# EAGLE library part MICRO (library USB - Verbinder)
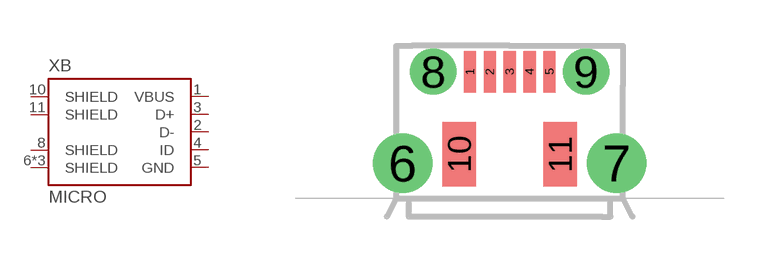
[diagram p1: symbol with the pads of MICRO_NEU; footprint MICRO_NEU]

Designator prefix XB

## MICRODX4R005JJ2  [MICRO_NEU]
1  VBUS
2  D-
3  D+
4  ID
5  GND
6  SHIELD
7  SHIELD
8  SHIELD
9  SHIELD
10  SHIELD
11  SHIELD

## Footprint MICRO_NEU (pad centres in mm)
smd 0.4 x 1.35: 1 -1.3,4.15; 2 -0.65,4.15; 3 0,4.15; 4 0.65,4.15; 5 1.3,4.15
drill 1.3: 6 -3.5,1.15; 7 3.5,1.15
drill 1: 8 -2.5,4.15; 9 2.5,4.15
smd 1.1 x 2.1: 10 -1.65,1.45; 11 1.65,1.45